# Altium footprint library TSNP-6-2.PcbLib: 1 footprints
Each footprint in its own frame and in the unit in brackets; x right, y up, seen from the top. Pads: shape width x height; smd on the part's side, far side on the other; paste and mask are expansions set on the pad; w line width, h text height; cw(c..) or ccw(c..) is an arc to the next point about the centre after c.
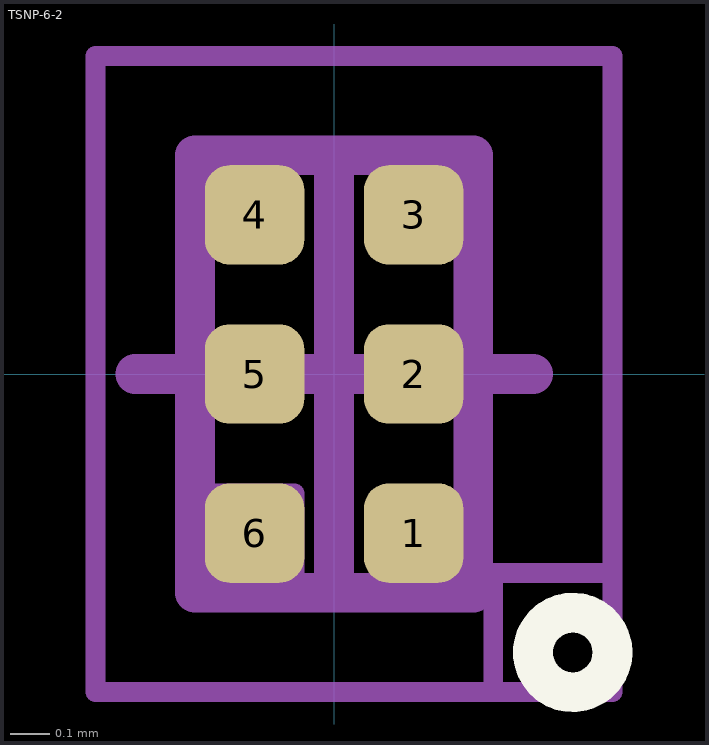
[diagram p0: the footprint, top view; thin cyan lines are the x and y axes]

## TSNP-6-2 [mm] "TSNP-6-2"
height 0.38
pads (6):
  rrect50% 0.25x0.25 smd paste-2 mask+0.03: 1(0.2,-0.4) 2(0.2,0) 3(0.2,0.4) 4(-0.2,0.4) 5(-0.2,0) 6(-0.2,-0.4)
Top Overlay:
  circle w0.1: c0.6,-0.7 r0.1
Top Paste:
  circle w0.125: c0.2,0 r0.063
  circle w0.125: c0.2,-0.4 r0.063
  circle w0.125: c-0.2,-0.4 r0.063
  circle w0.125: c-0.2,0 r0.063
  circle w0.125: c-0.2,0.4 r0.063
  circle w0.125: c0.2,0.4 r0.063
Top Assembly:
  lines w0.05: -0.35,-0.3 -0.1,-0.3 -0.1,-0.55
  lines w0.1: -0.35,-0.55 0.35,-0.55 0.35,0.55 -0.35,0.55 -0.35,-0.55
Top Courtyard:
  lines w0.05: 0.4,-0.8 0.4,-0.5 0.7,-0.5 ; -0.6,-0.8 -0.6,0.8 0.7,0.8 0.7,-0.8 -0.6,-0.8
  lines w0.1: -0.5,0 0.5,0 ; 0,-0.5 0,0.5
3D body "User Library-6-XFDFN-1.STEP": height 0.38, standoff -0.02, extent -0.35,-0.55 0.35,0.55